# EAGLE library part ATTINY*8P-? (library volks73-Atmel)
ATmeag48A/PA/88A/PA/168A/PA/328/P Atmel 8-bit Microcontroller with 4/8/16/32KBytes In-System Programmable Flash Documentation Datasheet <http://www.atmel.com/images/Atmel-8271-8-bit-AVR-Microcontroller-ATmega48A-48PA-88A-88PA-168A-168PA-328-328P_datasheet_Complete.pdf> Features High Performance, Low Power AVR® 8-Bit Microcontroller Advanced RISC Architecture 131 Powerful Instructions – Most Single Clock Cycle Execution 32 x 8 General Purpose Working Registers Fully Static Operation Up to 20 MIPS Throughput at 20MHz On-chip 2-cycle Multiplier High Endurance Non-volatile Memory Segments 4/8/16/32KBytes of In-System Self Programmable Flash program memory 256/512/512/1KBytes EEPROM 512/1K/1K/2KBytes Internal SRAM Write/Erase Cycles: 10,000 Flash/100,000 EEPROM Data Retention: 20 years at 85oC/100 years at 25oC Optional boot Code Section with Independent Lock Bits In-System Programming by On-chip Boot Program True Read-While-Write Operation Atmel® QTouch® library support Capacitive touch buttons, silders and wheels QTouch and QMatrix® acquisition Up to 64 sense channels Peripheral Features Two 8-bit Timer/Counters with Separate Prescaler and Compare Mode One 16-bit Timer/Counter with Separate Prescaler, Compare Mode, and Capture Mode Real Time Counter with Separate Oscillator Six PWM Channels 8-channel 10-bit ADC in TQFP and QFN/MLF package Temperature Measurement 6-channel 10-bit ADC in PDIP Package Temperature Measurement Programmable Serial USART Master/Slave SPI Serial Interface Byte-oriented 2-wire Serial Interface (Philips I2C compatible) Programmable Watchdog Timer with Separate On-chip Oscillator On-chip Analog Comparator Interrupt and Wake-up on Pin Change Special Microcontroller Features Power-on Reset and Programmable Brown-out Detection Internal Calibrated Oscillator External and Internal Interrupt Sources Six Sleep Modes: Idle, ADC Noise Reduction, Power-save, Power-down, Standby, and Extended Standby I/O and Packages 23 Programmable I/O Lines 28-pin PDIP, 32-lead TQFP, 28-pad QFN/MLF and 32-pad QFN/MLF Operating Voltage: 1.8 - 5.5V Temperature Range: -40oC to 85oC Speed Grade: 0 - 4MHz@1.8 - 5.5V, 0 - 10MHz@2.7 - 5.5.V, 0 - 20MHz @ 4.5 - 5.5V Power Consumption at 1MHz, 1.8V, 25oC Active Mode: 0.2mA Power-down Mode: 0.1μA Power-save Mode: 0.75μA (Including 32kHz RTC)
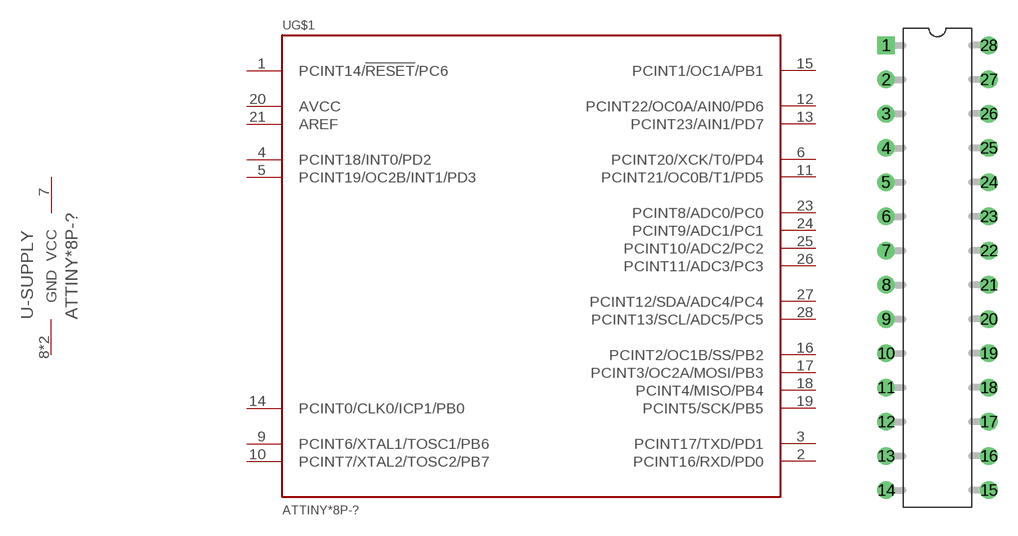
[diagram p2: symbol with the pads of DIP-28; footprint DIP-28]

Designator prefix U; gates G$1=ATMEGAX8 -SUPPLY=SUPPLY

## ATTINY328P-PU (CATEGORY: Integrated Circuits (ICs); CONNECTIVITY: I²C, SPI, UART/USART; CORE_PROCESSOR: AVR; CORE_SIZE: 8-Bit; DATA_CONVERTERS: A/D 6x10b; DESCRIPTION: IC MCU 8BIT 32KB FLASH 28DIP; DOCUMENTATION_LINK: <a href="http://www.atmel.com/images/Atmel-8271-8-bit-AVR-Microcontroller-ATmega48A-48PA-88A-88PA-168A-168PA-328-328P_datasheet_Complete.pdf">Datasheet</a>; DOCUMENTATION_URL: http://www.atmel.com/images/Atmel-8271-8-bit-AVR-Microcontroller-ATmega48A-48PA-88A-88PA-168A-168PA-328-328P_datasheet_Complete.pdf; EEPROM_SIZE: 1K x 8; FAMILY: Embedded - Microcontrollers; MANUFACTURER: Atmel; NUMBER_OF_IO: 23; OPERATING_TEMPERATURE: -40°C ~ 85°C; OSCILLATOR_TYPE: Internal; PACKAGE: 28-DIP (0.300", 7.62mm); PART_NUMBER: ATMEGA328P-PU; PERIPHERALS: Brown-out Detect/Reset, POR, PWM, WDT; PROGRAM_MEMORY_SIZE: 32KB (16K x 16); PROGRAM_MEMORY_TYPE: FLASH; RAM_SIZE: 2K x 8; SERIES: AVR® ATmega; SPEED: 20MHz; SUPPLIER_DEVICE_PACKAGE: 28-PDIP; SUPPLIER_ITEM_LINK: <a href="http://www.digikey.com/product-detail/en/ATMEGA328P-PU/ATMEGA328P-PU-ND/1914589">Details</a>; SUPPLIER_ITEM_NUMBER: ATMEGA328P-PU-ND; SUPPLIER_ITEM_URL: http://www.digikey.com/product-detail/en/ATMEGA328P-PU/ATMEGA328P-PU-ND/1914589; SUPPLIER_LINK: <a href="http://www.digikey.com">Home Page</a>; SUPPLIER_NAME: Digi-Key; SUPPLIER_URL: http://www.digikey.com; VOLTAGE-SUPPLY: 1.8 V ~ 5.5 V)  [DIP-28]
1  G$1:PCINT14/!RESET!/PC6
2  G$1:PCINT16/RXD/PD0
3  G$1:PCINT17/TXD/PD1
4  G$1:PCINT18/INT0/PD2
5  G$1:PCINT19/OC2B/INT1/PD3
6  G$1:PCINT20/XCK/T0/PD4
7  -SUPPLY:VCC  pwr
8  -SUPPLY:GND  pwr
9  G$1:PCINT6/XTAL1/TOSC1/PB6
10  G$1:PCINT7/XTAL2/TOSC2/PB7
11  G$1:PCINT21/OC0B/T1/PD5
12  G$1:PCINT22/OC0A/AIN0/PD6
13  G$1:PCINT23/AIN1/PD7
14  G$1:PCINT0/CLK0/ICP1/PB0
15  G$1:PCINT1/OC1A/PB1
16  G$1:PCINT2/OC1B/SS/PB2
17  G$1:PCINT3/OC2A/MOSI/PB3
18  G$1:PCINT4/MISO/PB4
19  G$1:PCINT5/SCK/PB5
20  G$1:AVCC
21  G$1:AREF
22  -SUPPLY:GND  pwr
23  G$1:PCINT8/ADC0/PC0
24  G$1:PCINT9/ADC1/PC1
25  G$1:PCINT10/ADC2/PC2
26  G$1:PCINT11/ADC3/PC3
27  G$1:PCINT12/SDA/ADC4/PC4
28  G$1:PCINT13/SCL/ADC5/PC5

## Footprint DIP-28 (pad centres in mm)
drill 0.8 square: 1 -3.81,16.51
drill 0.8: 2 -3.81,13.97; 3 -3.81,11.43; 4 -3.81,8.89; 5 -3.81,6.35; 6 -3.81,3.81; 7 -3.81,1.27; 8 -3.81,-1.27; 9 -3.81,-3.81; 10 -3.81,-6.35; 11 -3.81,-8.89; 12 -3.81,-11.43; 13 -3.81,-13.97; 14 -3.81,-16.51; 15 3.81,-16.51; 16 3.81,-13.97; 17 3.81,-11.43; 18 3.81,-8.89; 19 3.81,-6.35; 20 3.81,-3.81; 21 3.81,-1.27; 22 3.81,1.27; 23 3.81,3.81; 24 3.81,6.35; 25 3.81,8.89; 26 3.81,11.43; 27 3.81,13.97; 28 3.81,16.51